# EAGLE library part SPT-11P (library Traficon)
PHOENIX CONTACT type SPT 1.5/11-V-3.5
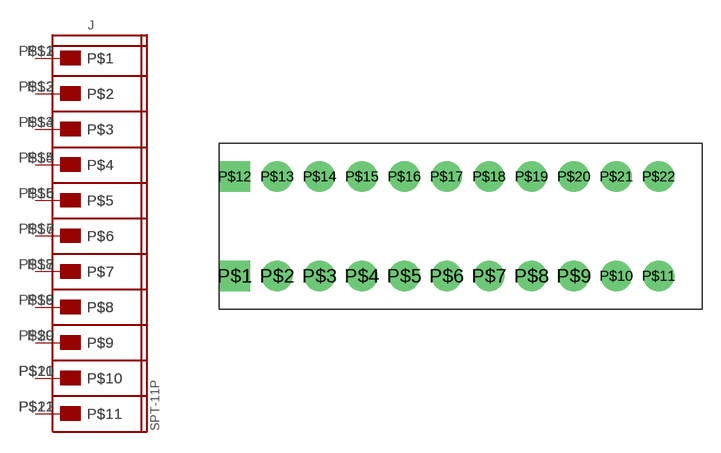
[diagram p89: symbol with the pads of SPT-11P; footprint SPT-11P]

Designator prefix J

## SPT-11P  [SPT-11P]
P$1  P$1
P$2  P$2
P$3  P$3
P$4  P$4
P$5  P$5
P$6  P$6
P$7  P$7
P$8  P$8
P$9  P$9
P$10  P$10
P$11  P$11
P$12  P$1
P$13  P$2
P$14  P$3
P$15  P$4
P$16  P$5
P$17  P$6
P$18  P$7
P$19  P$8
P$20  P$9
P$21  P$10
P$22  P$11

## Footprint SPT-11P (pad centres in mm)
drill 1.1 pad 2.54 square: P$1 0,0; P$12 0,8.2
drill 1.1 pad 2.54 round: P$2 3.5,0; P$3 7,0; P$4 10.5,0; P$5 14,0; P$6 17.5,0; P$7 21,0; P$8 24.5,0; P$9 28,0; P$10 31.5,0; P$11 35,0; P$13 3.5,8.2; P$14 7,8.2; P$15 10.5,8.2; P$16 14,8.2; P$17 17.5,8.2; P$18 21,8.2; P$19 24.5,8.2; P$20 28,8.2; P$21 31.5,8.2; P$22 35,8.2